# EAGLE library part XLAMP-XML (library MDB_HOME)
Cree® XLamp® XM-L Color LEDs COLOR D1: RED D2: GREEN D3: BLUE D4: WHITE
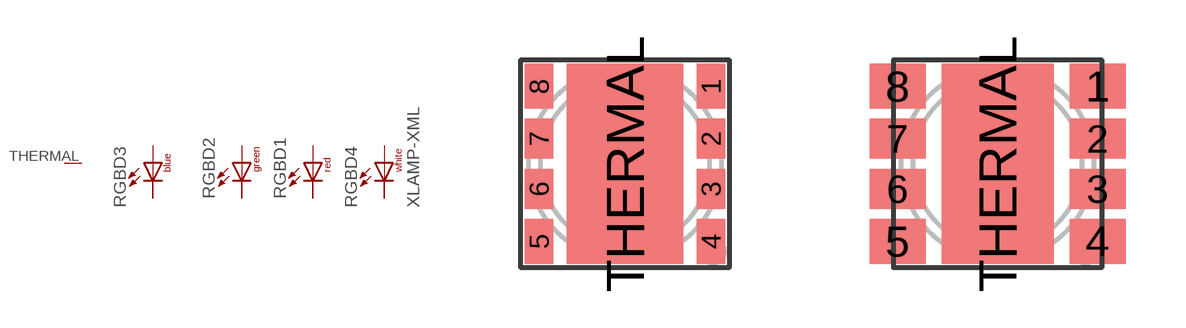
[diagram p46: symbol with the pads of XLAMP_CREE_8EP; footprints XLAMP_CREE_8EP, XLAMP_CREE_LONG]

Designator prefix RGB; gates D3=LEDB D2=LEDG D1=LEDR D4=LEDW G$1=THERM

## XLAMP-XMLS  [XLAMP_CREE_8EP]
1  D1:A  pas
2  D2:A  pas
3  D3:A  pas
4  D4:A  pas
5  D4:C  pas
6  D3:C  pas
7  D2:C  pas
8  D1:C  pas
THERMAL  G$1:THERM

## XLAMP-XML_LPAD  [XLAMP_CREE_LONG]
Pads as for XLAMP_CREE_8EP

## Footprint XLAMP_CREE_8EP (pad centres in mm)
smd 0.7 x 1.12: 1 2.15,1.94; 4 2.15,-1.94; 5 -2.15,-1.94; 8 -2.15,1.94
smd 0.7 x 1: 2 2.15,0.627; 3 2.15,-0.627; 6 -2.15,-0.627; 7 -2.15,0.627
smd 2.9 x 5: THERMAL 0,0

## Footprint XLAMP_CREE_LONG (pad centres in mm)
smd 1.4 x 1.12: 1 2.5,1.94; 4 2.5,-1.94; 5 -2.5,-1.94; 8 -2.5,1.94
smd 1.4 x 1: 2 2.5,0.627; 3 2.5,-0.627; 6 -2.5,-0.627; 7 -2.5,0.627
smd 2.8 x 5: THERMAL 0,0